# EAGLE library part LIS3MDLTR (library pimoroni-ics)
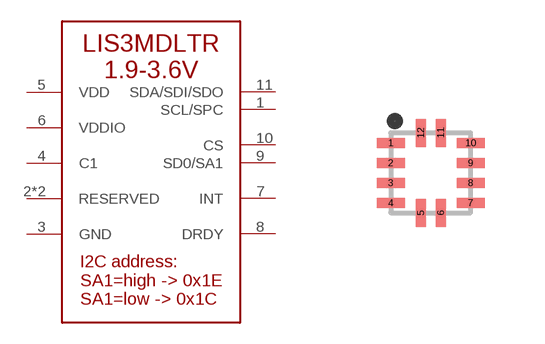
[diagram p124: symbol with the pads of LGA-12; footprint LGA-12]

Designator prefix U

## LIS3MDLTR  [LGA-12]
1  SCL/SPC
2  RESERVED
3  GND
4  C1
5  VDD
6  VDDIO
7  INT
8  DRDY
9  SD0/SA1
10  CS
11  SDA/SDI/SDO
12  RESERVED

## Footprint LGA-12 (pad centres in mm)
smd 0.7 x 0.25: 1 -1,0.75; 2 -1,0.25; 3 -1,-0.25; 4 -1,-0.75; 7 1,-0.75; 8 1,-0.25; 9 1,0.25; 10 1,0.75
smd 0.25 x 0.7: 5 -0.25,-1; 6 0.25,-1; 11 0.25,1; 12 -0.25,1